# Altium footprint library subpoly.PcbLib: 1 footprints
Each footprint in its own frame and in the unit in brackets; x right, y up, seen from the top. Pads: shape width x height; smd on the part's side, far side on the other; paste and mask are expansions set on the pad; w line width, h text height; cw(c..) or ccw(c..) is an arc to the next point about the centre after c.
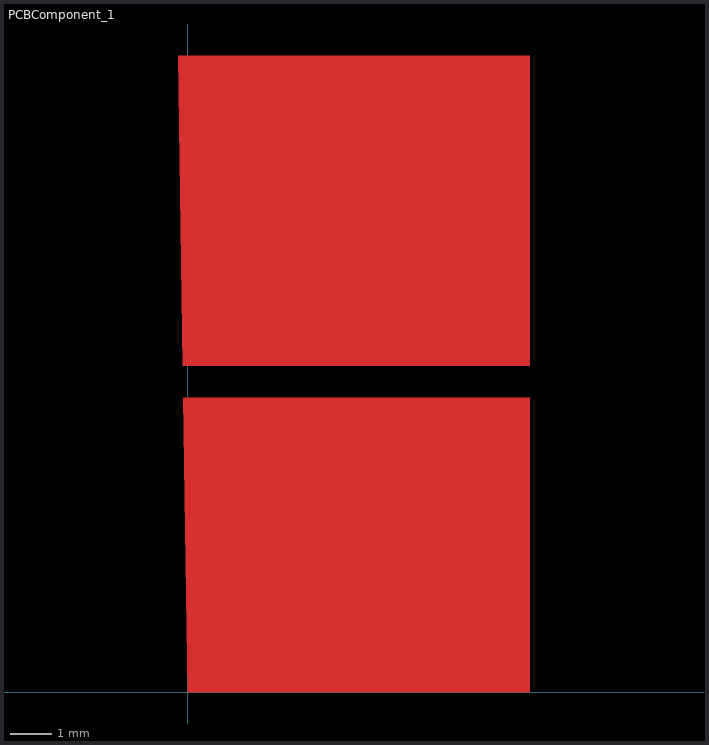
[diagram p0: the footprint, top view; thin cyan lines are the x and y axes]

## PCBComponent_1 [mm]
Top Layer:
  region: 8.259,0 0,0 -0.103,7.105 8.259,7.105
  region: 8.259,7.881 -0.114,7.881 -0.223,15.367 8.259,15.367